# Altium integrated library mitsubishi-semiconductor.IntLib: 2 symbols
Pins are listed as number, name and electrical type; pins without a type are passive.

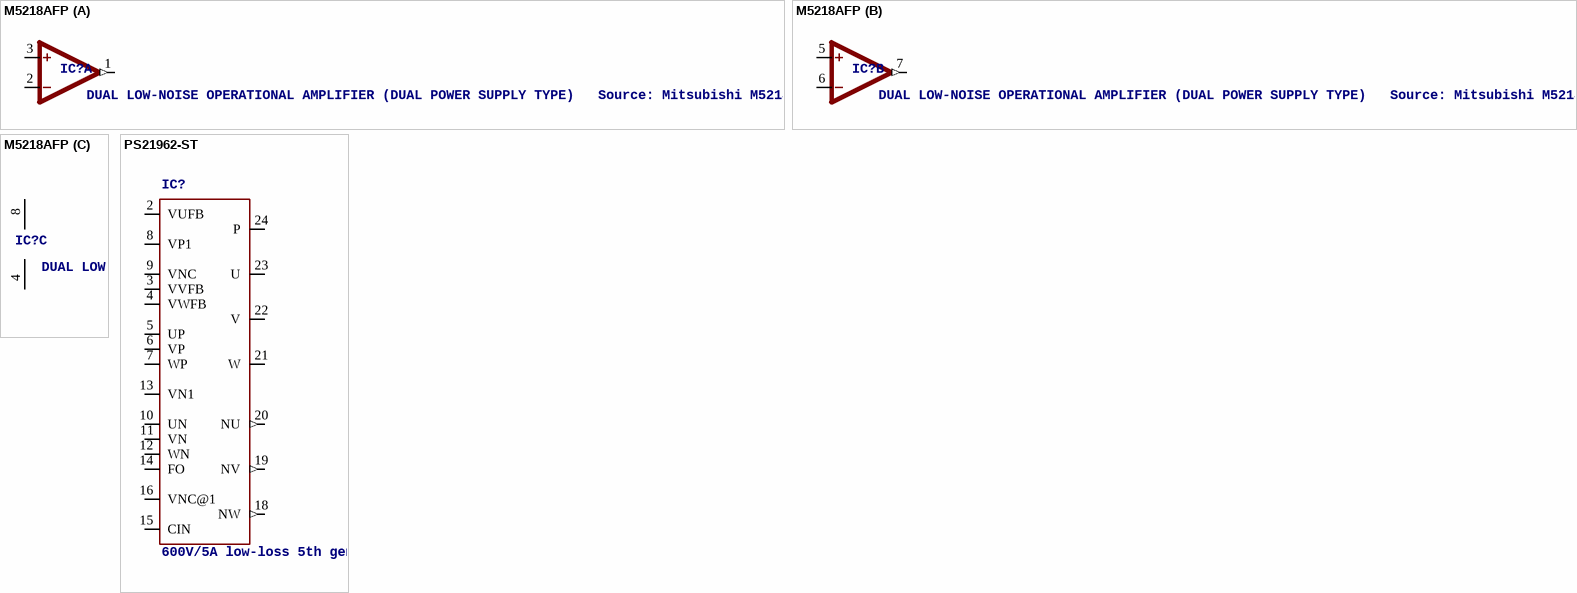
[diagram p0: symbols M5218AFP to PS21962-ST]

## M5218AFP
designator IC?, comment DUAL LOW-NOISE OPERATIONAL AMPLIFIER (DUAL POWER SUPPLY TYPE)   Source: Mitsubishi M5218AL/P/FP
footprint SOP8
part A pins: 1 OUT (out), 2 -IN, 3 +IN
part B pins: 5 +IN, 6 -IN, 7 OUT (out)
part C pins: 4 V- (power), 8 V+ (power)

## PS21962-ST
designator IC?, comment 600V/5A low-loss 5th generation IGBT inverter bridge for three phase DC-to-AC power conversion   Open emitter type Source:  Data sheet
OC_FARNELL: unknown; OC_NEWARK: unknown
footprint PS21962-ST
pins: 2 VUFB, 3 VVFB, 4 VWFB, 5 UP, 6 VP, 7 WP, 8 VP1, 9 VNC, 10 UN, 11 VN, 12 WN, 13 VN1, 14 FO, 15 CIN, 16 VNC@1, 18 NW (out), 19 NV (out), 20 NU (out), 21 W (oc), 22 V (oc), 23 U (oc), 24 P (oc)